# Altium schematic symbol library LED_4PIN_GRN21_RED34.SchLib: 1 symbol
Pins are listed as number, name and electrical type; pins without a type are passive.

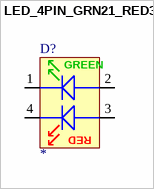
[diagram p0: symbol LED_4PIN_GRN21_RED34]

## LED_4PIN_GRN21_RED34
designator D?
pins: 1 GC, 2 GA, 3 RA, 4 RC
text: GREEN; RED